# Altium schematic symbol library QUTMS_IntegratedCircuitLibrary.SchLib: 4 symbols
Pins are listed as number, name and electrical type; pins without a type are passive.

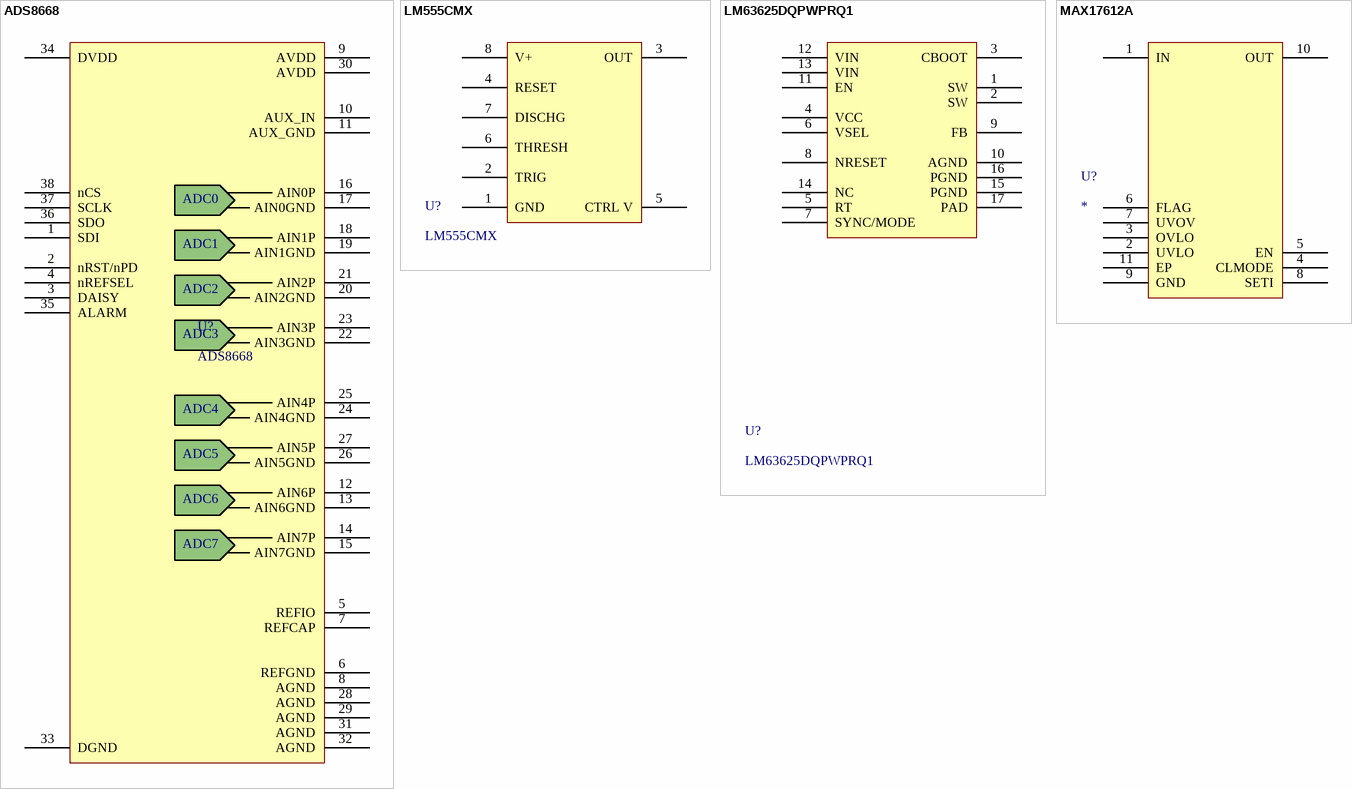
[diagram p0: symbols ADS8668 to MAX17612A]

## ADS8668
designator U?
12 Bit Analog to Digital Converter 8 Input 1 SAR 38-TSSOP
pins: 1 SDI, 2 nRST/nPD, 3 DAISY, 4 nREFSEL, 5 REFIO, 6 REFGND, 7 REFCAP, 8 AGND, 9 AVDD, 10 AUX_IN, 11 AUX_GND, 12 AIN6P, 13 AIN6GND, 14 AIN7P, 15 AIN7GND, 16 AIN0P, 17 AIN0GND, 18 AIN1P, 19 AIN1GND, 20 AIN2GND, 21 AIN2P, 22 AIN3GND, 23 AIN3P, 24 AIN4GND, 25 AIN4P, 26 AIN5GND, 27 AIN5P, 28 AGND, 29 AGND, 30 AVDD, 31 AGND, 32 AGND, 33 DGND, 34 DVDD, 35 ALARM, 36 SDO, 37 SCLK, 38 nCS
text: ADC0; ADC1; ADC2; ADC3; ADC4; ADC5; ADC6; ADC7

## LM555CMX
designator U?
555 Type, Timer/Oscillator (Single) IC 100kHz 8-SOIC; ComponentLink1Description: Digikey; ComponentLink1URL: https://www.digikey.com.au/product-detail/en/texas-instruments/LM555CMX%2FNOPB/LM555CMX%2FNOPBCT-ND/1010545?utm_adgroup=Integrated%20Circuits&utm_source=google&utm_medium=cpc&utm_campaign=Dynamic%20Search_EN_Product&utm_term=&productid=&gclid=CjwKCAjwr7X4BRA4EiwAUXjbt-N3vibcCncJp7dB6lpBrLRT-QxYTJoHZmGPqFSswFIeP9Lhu7cYVBoCjmMQAvD_BwE; ComponentLink2Description: Datasheet; ComponentLink2URL: https://www.ti.com/general/docs/suppproductinfo.tsp?distId=10&gotoUrl=http%3A%2F%2Fwww.ti.com%2Flit%2Fgpn%2Flm555
footprint 8-SOIC
pins: 1 GND, 2 TRIG, 3 OUT, 4 RESET, 5 CTRL V, 6 THRESH, 7 DISCHG, 8 V+

## LM63625DQPWPRQ1
designator U?
Buck Switching Regulator IC Positive Adjustable 1V 1 Output 2.5A 16-PowerTSSOP (0.173", 4.40mm Width); ComponentLink1Description: Digikey; ComponentLink1URL: https://www.digikey.ee/product-detail/en/texas-instruments/LM63625DQPWPRQ1/296-LM63625DQPWPRQ1CT-ND/10716102; ComponentLink2Description: Datasheet; ComponentLink2URL: https://www.ti.com/general/docs/suppproductinfo.tsp?distId=10&gotoUrl=http%3A%2F%2Fwww.ti.com%2Flit%2Fgpn%2Flm555
pins: 1 SW, 2 SW, 3 CBOOT, 4 VCC, 5 RT, 6 VSEL, 7 SYNC/MODE, 8 NRESET, 9 FB, 10 AGND, 11 EN, 12 VIN, 13 VIN, 14 NC, 15 PGND, 16 PGND, 17 PAD

## MAX17612A
designator U?
4.5V to 60V, 250mA Current-Limiter with OV, UV, and Reverse Protection; ComponentLink1Description: Datasheet; ComponentLink1URL: https://datasheets.maximintegrated.com/en/ds/MAX17612A-MAX17612C.pdf
footprint 10-Pin TDFN EP
pins: 1 IN, 2 UVLO, 3 OVLO, 4 CLMODE, 5 EN, 6 FLAG, 7 UVOV, 8 SETI, 9 GND, 10 OUT, 11 EP